# Altium schematic symbol library Relay.SchLib: 4 symbols
Pins are listed as number, name and electrical type; pins without a type are passive.

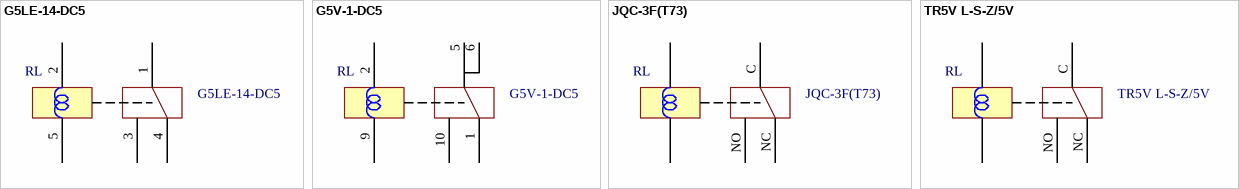
[diagram p0: symbols G5LE-14-DC5 to TR5V L-S-Z/5V]

## G5LE-14-DC5
designator RL  value G5LE-14-DC5  (hidden comment: *)
Voltage: 5V
footprint G5LE-14-DC5 (Footprint not found)
pins: 1, 2, 3, 4, 5

## G5V-1-DC5
designator RL  value G5V-1-DC5  (hidden comment: *)
Voltage: 5V
footprint G5V-1-DC5 (Footprint not found)
pins: 1, 2, 5, 6, 9, 10

## JQC-3F(T73)
designator RL  value JQC-3F(T73)  (hidden comment: *)
Voltage: 5V
footprint JQC-3F(T73) (Footprint not found)
pins: C, L1, L2, NC, NO

## TR5V L-S-Z/5V
designator RL  value TR5V L-S-Z/5V  (hidden comment: *)
Voltage: 5V
footprint TR5V L-S-Z/5VDC
pins: C, L1, L2, NC, NO